# Altium footprint library Practice.PcbLib: 3 footprints
Each footprint in its own frame and in the unit in brackets; x right, y up, seen from the top. Pads: shape width x height; smd on the part's side, far side on the other; paste and mask are expansions set on the pad; w line width, h text height; cw(c..) or ccw(c..) is an arc to the next point about the centre after c.
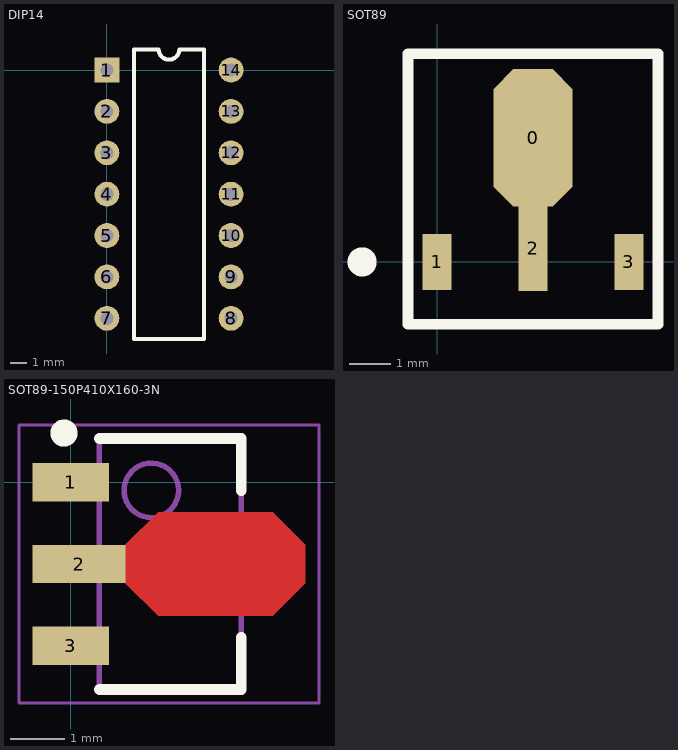
[diagram p0: the footprints below, top view; thin cyan lines are the x and y axes]

## DIP14 [mil]
pads (14):
  rect 60x60 hole 32: 1(0,0)
  round 60 hole 32: 2(0,-100) 3(0,-200) 4(0,-300) 5(0,-400) 6(0,-500) 7(0,-600) 8(300,-600) 9(300,-500) 10(300,-400) 11(300,-300) 12(300,-200) 13(300,-100) 14(300,0)
Top Overlay:
  lines w10: 65,-650 65,50 125,50 ccw(c150,50) 175,50 235,50 235,-650 65,-650

## SOT89 [mm]
pads (4):
  oct 1.9x3.3 smd mask+0.102: 0(2.3,2.975)
  rect 0.7x1.35 smd mask+0.102: 1(0,0) 3(4.6,0)
  rect 0.7x2.05 smd mask+0.102: 2(2.3,0.325)
Top Overlay:
  circle w0.5: c-1.8,0 r0.1
  lines w0.254: -0.7,-1.5 -0.7,5 5.3,5 5.3,-1.5 -0.7,-1.5

## SOT89-150P410X160-3N [mm] "SOT89, 3-Leads, Body 4.50x2.50mm, Pitch 1.50mm, Lead Span 4.1mm, IPC Medium Density"
height 1.6
pads (3):
  rect 1.4x0.7 smd: 1(0,0) 3(0,-3)
  rect 1.7x0.7 smd: 2(0.15,-1.5)
Top Layer:
  region: 1,-1.15 1.6,-0.55 3.7,-0.55 4.3,-1.15 4.3,-1.85 3.7,-2.45 1.6,-2.45 1,-1.85
Top Overlay:
  circle w0.25: c-0.125,0.9 r0.125
  lines w0.2: 0.525,-3.8 3.125,-3.8 3.125,-2.85 ; 0.525,0.8 3.125,0.8 3.125,-0.15
Mechanical 13:
  circle w0.1: c1.475,-0.15 r0.5
  lines w0.1: 0.525,-3.8 3.125,-3.8 3.125,0.8 0.525,0.8 0.525,-3.8
Mechanical 15:
  lines w0.05: -0.95,-4.05 4.55,-4.05 4.55,1.05 -0.95,1.05 -0.95,-4.05
  lines w0.1: 1.325,-1.5 2.325,-1.5 ; 1.825,-2 1.825,-1
3D body: height 1.6, standoff 0, extent 0.525,-3.8 3.125,0.8